# EAGLE library part TPS63002? (library XLibrary)
HIGH EFFICIENT SINGLE INDUCTOR BUCK-BOOST CONVERTER WITH 1.8-A SWITCHES
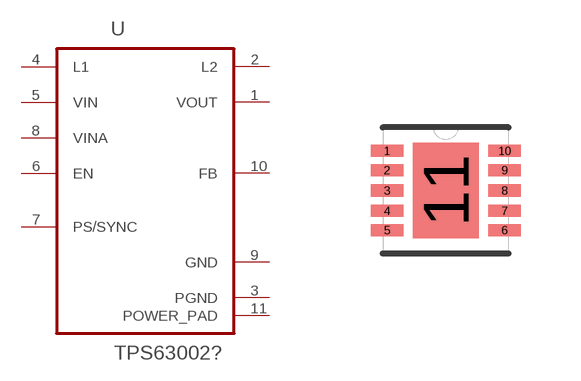
[diagram p4: symbol with the pads of SON50P300X300X100-11N; footprint SON50P300X300X100-11N]

Designator prefix U

## TPS63002DRCR (MPN: TPS63002DRCR; OC_FARNELL: 1576333; OC_NEWARK: 85K1713; PACKAGE: SON-10; SUPPLIER: TEXAS INSTRUMENTS)  [SON50P300X300X100-11N]
1  VOUT  out
2  L2  pas
3  PGND  pas
4  L1  pas
5  VIN  pwr
6  EN  in
7  PS/SYNC  in
8  VINA  pwr
9  GND  pas
10  FB  in
11  POWER_PAD  pas

## Footprint SON50P300X300X100-11N (pad centres in mm)
Package VSON-10 DRC (DRC0010J)
smd 0.813 x 0.305: 1 -1.473,0.991; 2 -1.473,0.508; 3 -1.473,0; 4 -1.473,-0.508; 5 -1.473,-0.991; 6 1.473,-0.991; 7 1.473,-0.508; 8 1.473,0; 9 1.473,0.508; 10 1.473,0.991
smd 1.651 x 2.388: 11 0,0